# Altium schematic symbol library RM024-PXXX.SchLib: 1 symbol
Pins are listed as number, name and electrical type; pins without a type are passive.

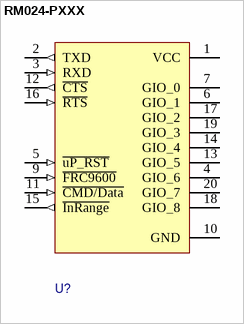
[diagram p0: symbol RM024-PXXX]

## RM024-PXXX
designator U?, comment RM024  (value not drawn)
RF Modules 2.4GHz Transceiver SMT 10mW dual ant
pins: 1 VCC (power), 2 TXD (out), 3 RXD (in), 4 GIO_6, 5 ~{uP_RST} (in), 6 GIO_1, 7 GIO_0, 8 DNC hidden, 9 ~{FRC9600} (in), 10 GND (power), 11 ~{CMD/Data} (in), 12 ~{CTS} (out), 13 GIO_5, 14 GIO_4, 15 ~{InRange} (out), 16 ~{RTS} (in), 17 GIO_2, 18 GIO_8, 19 GIO_3, 20 GIO_7
1 alternate drawing of the same symbol